# EAGLE library part EH_B9B-EH (library CASE-JST)
JST EH Connector, through hole, 9 pin, top entry Description: JST EH connector with 2.5 mm pitch, through hole version, 9 pin, top entry. Links: Datasheet <http://www.jst-mfg.com/product/pdf/eng/eEH.pdf>
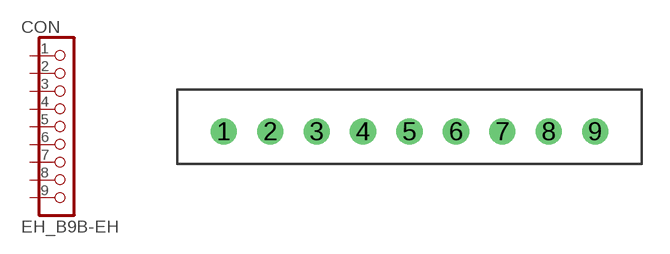
[diagram p18: symbol with the pads of B9B-EH; footprint B9B-EH]

Designator prefix CON

## EH_B9B-EH  [B9B-EH]
1  1  pas
2  2  pas
3  3  pas
4  4  pas
5  5  pas
6  6  pas
7  7  pas
8  8  pas
9  9  pas

## Footprint B9B-EH (pad centres in mm)
JST B9B-EH Datasheet <http://www.jst-mfg.com/product/pdf/eng/eEH.pdf>
drill 0.9: 1 -10,0; 2 -7.5,0; 3 -5,0; 4 -2.5,0; 5 0,0; 6 2.5,0; 7 5,0; 8 7.5,0; 9 10,0